# Altium schematic symbol library Voltage_Regulators_Linear.SchLib: 1 symbol
Pins are listed as number, name and electrical type; pins without a type are passive.

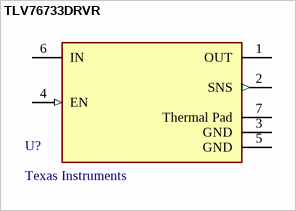
[diagram p0: symbol TLV76733DRVR]

## TLV76733DRVR
designator U?, comment Texas Instruments
Precision Linear Voltage Regulator Positive 3.3V 1A 6-Pin WSON T/R; Manufacturer Part Number 1: TLV76733DRVR; Category 1: Voltage Regulators - Linear; Supplier 1: Digi-Key; Supplier Part Number 1: 296-TLV76733DRVRCT-ND; Manufacturer 1: Texas Instruments; RoHS 1: Yes; Description 1: Precision Linear Voltage Regulator Positive 3.3V 1A 6-Pin WSON T/R; Stock 1: 18565; Pricing 1: 1=0.92000, 10=0.82200, 25=0.78040, 100=0.64120, 250=0.59936, 500=0.52968, 1000=0.41817 (USD); ComponentLink1URL: http://www.ti.com/general/docs/suppproductinfo.tsp?distId=10&amp;gotoUrl=http%3A%2F%2Fwww.ti.com%2Flit%2Fgpn%2Ftlv767&src-supplier=Digi-Key; ComponentLink1Description: http://www.ti.com/general/docs/suppproductinfo.tsp?distId=10&amp;gotoUrl=http%3A%2F%2Fwww.ti.com%2Flit%2Fgpn%2Ftlv767&src-supplier=Digi-Key; Supplier 2: Digi-Key; Supplier Part Number 2: 296-TLV76733DRVRDKR-ND; Manufacturer 2: Texas Instruments; Manufacturer Part Number 2: TLV76733DRVR; RoHS 2: Yes; Description 2: Precision Linear Voltage Regulator Positive 3.3V 1A 6-Pin WSON T/R; Category 2: Voltage Regulators - Linear; Stock 2: 18565; Pricing 2: 1=0.92000, 10=0.82200, 25=0.78040, 100=0.64120, 250=0.59936, 500=0.52968, 1000=0.41817 (USD); Supplier 3: Digi-Key; Supplier Part Number 3: 296-TLV76733DRVRTR-ND; Manufacturer 3: Texas Instruments; Manufacturer Part Number 3: TLV76733DRVR; RoHS 3: Yes; Description 3: Precision Linear Voltage Regulator Positive 3.3V 1A 6-Pin WSON T/R; Category 3: Voltage Regulators - Linear; Stock 3: 18000; Pricing 3: 3000=0.39450 (USD); Supplier 4: Mouser; Supplier Part Number 4: 595-TLV76733DRVR; Manufacturer 4: Texas Instruments; Manufacturer Part Number 4: TLV76733DRVR; RoHS 4: Yes; Description 4: Precision Linear Voltage Regulator Positive 3.3V 1A 6-Pin WSON T/R; Category 4: Voltage Regulators - Linear; Stock 4: 19431; Pricing 4: 1=0.92000, 10=0.82300, 25=0.78100, 50=0.78100, 100=0.64200, 250=0.60000, 500=0.53000, 1000=0.41900, 3000=0.40400, 10000=0.40400 (USD)
footprint FP-DRV0006A-IPC_A
footprint FP-DRV0006A-IPC_B
footprint FP-DRV0006A-IPC_C
pins: 1 OUT, 2 SNS (out), 3 GND (power), 4 EN (in), 5 GND (power), 6 IN (power), 7 Thermal Pad